# Altium footprint library OpenMV扩展版(贴片排母).PcbLib: 1 footprints
Each footprint in its own frame and in the unit in brackets; x right, y up, seen from the top. Pads: shape width x height; smd on the part's side, far side on the other; paste and mask are expansions set on the pad; w line width, h text height; cw(c..) or ccw(c..) is an arc to the next point about the centre after c.
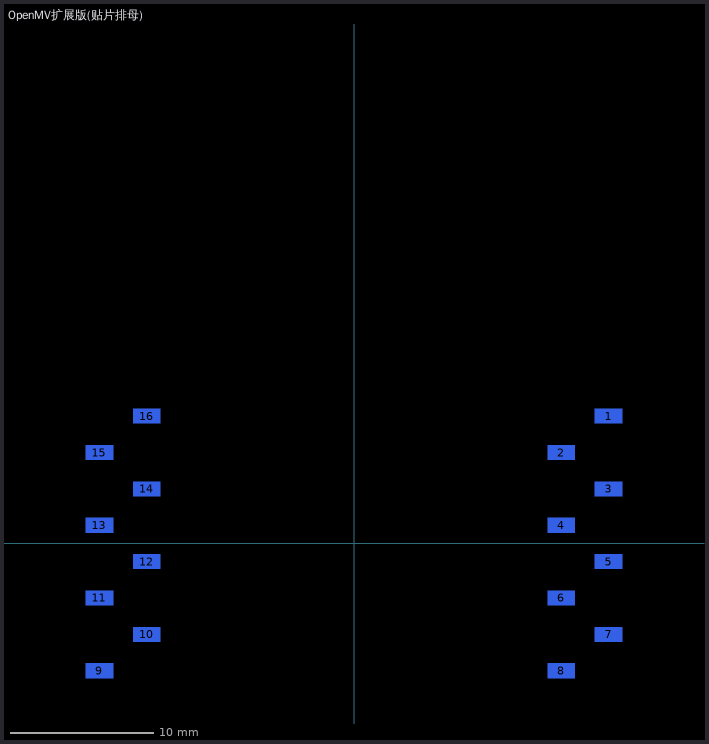
[diagram p0: the footprint, top view; thin cyan lines are the x and y axes]

## OpenMV扩展版(贴片排母) [mm]
pads (16):
  rect 1.9x1.02 smd far side: 1(17.779,8.89) 2(14.479,6.35) 3(17.779,3.81) 4(14.479,1.27) 5(17.779,-1.27) 6(14.479,-3.81) 7(17.779,-6.35) 8(14.479,-8.89) 9(-17.779,-8.89) 10(-14.479,-6.35) 11(-17.779,-3.81) 12(-14.479,-1.27) 13(-17.779,1.27) 14(-14.479,3.81) 15(-17.779,6.35) 16(-14.479,8.89)
Bottom Overlay:
  lines w0.24: -17.78,-9.652 -17.78,-10.39 17.78,-10.39 17.78,-7.12 ; -17.78,-8.096 -17.78,-4.556 ; -17.78,-3.024 -17.78,0.516 ; -17.78,2.048 -17.78,5.588 ; -17.78,7.12 -17.78,34.06 17.78,34.06 17.78,9.652 ; -17.399,-9.652 -17.399,-10.16 -14.859,-10.16 -14.859,-7.12 ; -17.399,-8.096 -17.399,-4.556 ; -17.399,-3.024 -17.399,0.516 ; -17.399,2.048 -17.399,5.588 ; -17.399,7.12 -17.399,10.16 -14.859,10.16 -14.859,9.652 ; -14.859,-5.58 -14.859,-2.04 ; -14.859,-0.5 -14.859,3.04 ; -14.859,4.58 -14.859,8.12 ; 14.859,-9.652 14.859,-10.16 17.399,-10.16 17.399,-7.12 ; 14.859,-8.096 14.859,-4.556 ; 14.859,-3.024 14.859,0.516 ; 14.859,2.048 14.859,5.588 ; 14.859,7.12 14.859,10.16 17.399,10.16 17.399,9.652 ; 17.399,-5.58 17.399,-2.04 ; 17.399,-0.5 17.399,3.04 ; 17.399,4.58 17.399,8.12 ; 17.78,-5.58 17.78,-2.04 ; 17.78,-0.5 17.78,3.04 ; 17.78,4.58 17.78,8.12